# EAGLE library part BD6210F (library 000-ece411)
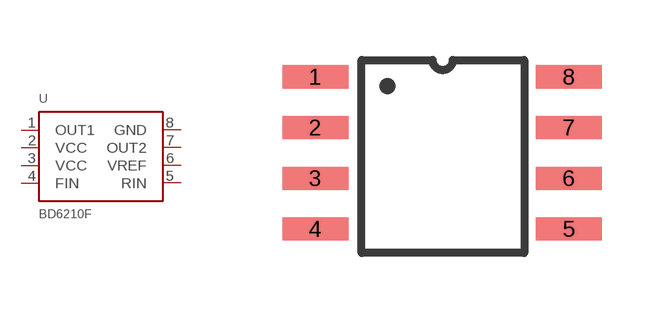
[diagram p4: symbol with the pads of SOP8; footprint SOP8]

Designator prefix -

## BD6210F  [SOP8]
1  OUT1
2  VCC
3  VCC
4  FIN
5  RIN
6  VREF
7  OUT2
8  GND

## Footprint SOP8 (pad centres in mm)
smd 1.65 x 0.58: 1 0,0; 2 0,-1.27; 3 0,-2.54; 4 0,-3.81; 5 6.345,-3.81; 6 6.345,-2.54; 7 6.345,-1.27; 8 6.345,0